# Altium schematic symbol library IND,10uH,1.45A,Wirewound,SMD.Schlib: 1 symbol
Pins are listed as number, name and electrical type; pins without a type are passive.

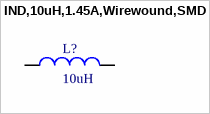
[diagram p0: symbol IND,10uH,1.45A,Wirewound,SMD]

## IND,10uH,1.45A,Wirewound,SMD
designator L?, comment 10uH
FIXED IND 10UH 1.45A 100MOHM SMD
pins: 1, 2